# Altium schematic symbol library avago-fiber.SchLib: 2 symbols
Pins are listed as number, name and electrical type; pins without a type are passive.

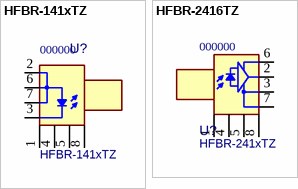
[diagram p0: symbols HFBR-141xTZ to HFBR-2416TZ]

## HFBR-141xTZ
designator U?, comment 000000  value HFBR-141xTZ
820nm High Speed Transmitter; MFG: AVAGO; PN: 000000; Package: Threaded ST; ExtraInfo: *
footprint HFBR-x41x-TxZ (Fiber Optices ST)
pins: 1 NC "Emitter", 2 A "Anode", 3 K "Cathode", 4 NC "Collector", 5 NC "Collector", 6 A "Anode", 7 A "Anode", 8 NC "Emitter"

## HFBR-2416TZ
designator U?, comment 000000  value HFBR-241xTZ
820nm 125MHz Receiver; MFG: AVAGO; PN: 000000; Package: Threaded ST; ExtraInfo: *
footprint HFBR-x41x-TxZ (Fiber Optices ST)
pins: 1 NC "Emitter", 2 SIGNAL "Collector", 3 VEE "Emitter", 4 NC "Collector", 5 NC "Collector", 6 VCC "Collector", 7 VEE "Anode", 8 NC "Emitter"